# Altium footprint library PowerJack.PcbLib: 6 footprints
Each footprint in its own frame and in the unit in brackets; x right, y up, seen from the top. Pads: shape width x height; smd on the part's side, far side on the other; paste and mask are expansions set on the pad; w line width, h text height; cw(c..) or ccw(c..) is an arc to the next point about the centre after c.
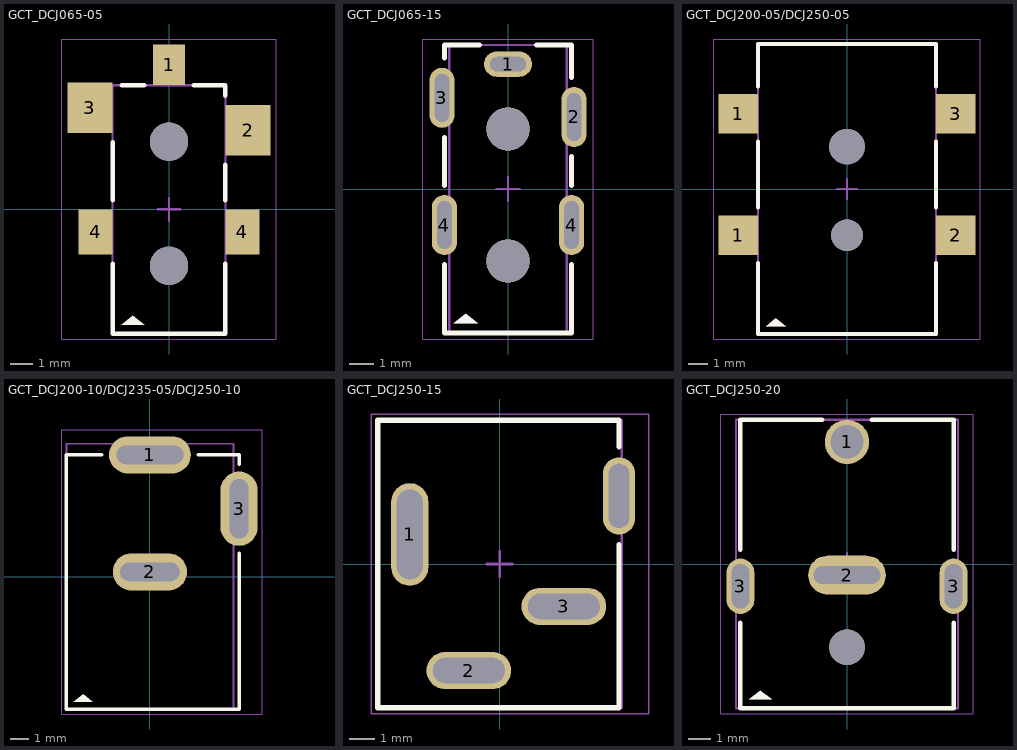
[diagram p0: the footprints below, top view; thin cyan lines are the x and y axes]

## GCT_DCJ065-05 [mm]
height 5
pads (7):
  rect 1.4x1.8 smd: 1(0,6.4)
  rect 2x2.25 smd: 2(3.5,3.5) 3(-3.5,4.5)
  rect 1.5x2 smd: 4(-3.25,-1) 4(3.25,-1)
  round 1.7 hole 1.7 unplated: ""(0,-2.5) ""(0,3)
Top Overlay:
  region: -2.1,-5.1 -1.1,-5.1 -1.6,-4.7
  lines w0.2: -2.5,-2.4 -2.5,-5.5 2.5,-5.5 2.5,-2.4 ; -2.5,0.4 -2.5,2.975 ; -2.1,5.5 -1.1,5.5 ; 1.1,5.5 2.5,5.5 2.5,5.025 ; 2.5,0.4 2.5,1.975
Top Assembly:
  region: -2.1,-5.1 -1.1,-5.1 -1.6,-4.7
  lines w0.1: -2.5,-5.5 -2.5,5.5 2.5,5.5 2.5,-5.5 -2.5,-5.5
  text ".Designator" at -2.253,-0.226 h1
Top Courtyard:
  lines w0.05: -4.75,-5.74 4.75,-5.74 4.75,7.544 -4.75,7.544 -4.75,-5.74
  lines w0.1: -0.5,0 0.5,0 ; 0,-0.5 0,0.5
3D body "DCJ065-05.stp": height 5.31, standoff -0.89, extent -4.14,-5.488 4.06,7.012

## GCT_DCJ065-15 [mm]
height 5.2
pads (7):
  oval 2x1.05 hole 0.6 slot 1.5 at 0 deg: 1(0,5.2)
  oval 1.05x2.5 hole 0.6 slot 2 at 90 deg: 2(2.75,3) 3(-2.75,3.8) 4(-2.65,-1.5) 4(2.65,-1.5)
  round 1.8 hole 1.8 unplated: ""(0,-3) ""(0,2.5)
Top Overlay:
  region: -2.25,-5.6 -1.25,-5.6 -1.75,-5.2
  lines w0.2: -2.65,-3.15 -2.65,-6 2.65,-6 2.65,-3.15 ; -2.65,0.15 -2.65,2.155 ; -2.65,5.446 -2.65,6 -1.192,6 ; 1.192,6 2.65,6 2.65,4.646 ; 2.65,0.15 2.65,1.354
Top Assembly:
  region: -2.25,-5.6 -1.25,-5.6 -1.75,-5.2
  lines w0.1: -2.45,-6 2.45,-6 2.45,6 -2.45,6 -2.45,-6
  text ".Designator" at -2.253,-0.226 h1
Top Courtyard:
  lines w0.05: -3.556,-6.248 -3.556,6.248 3.556,6.248 3.556,-6.248 -3.556,-6.248
  lines w0.1: -0.5,0 0.5,0 ; 0,-0.5 0,0.5
3D body "DCJ065-15.stp": height 5.2, standoff -2.5, extent -2.925,-6.024 2.85,5.976

## GCT_DCJ200-05/DCJ250-05 [mm]
height 11
pads (6):
  rect 2x2 smd: 1(-5.5,-2.35) 1(-5.5,3.8) 2(5.5,-2.35) 3(5.5,3.8)
  round 1.6 hole 1.6 unplated: ""(0,-2.35)
  round 1.8 hole 1.8 unplated: ""(0,2.15)
Top Overlay:
  region: -4.1,-6.95 -3.1,-6.95 -3.6,-6.55
  lines w0.2: -4.5,-3.75 -4.5,-7.35 4.5,-7.35 4.5,-3.75 ; -4.5,-0.95 -4.5,2.4 ; -4.5,5.2 -4.5,7.35 4.5,7.35 4.5,5.2 ; 4.5,-0.95 4.5,2.4
Top Assembly:
  region: -4.1,-6.95 -3.1,-6.95 -3.6,-6.55
  lines w0.1: -4.5,-7.35 -4.5,7.35 4.5,7.35 4.5,-7.35 -4.5,-7.35
  text ".Designator" at -2.253,-0.226 h1
Top Courtyard:
  lines w0.05: -6.756,-7.595 -6.756,7.595 6.756,7.595 6.756,-7.595 -6.756,-7.595
  lines w0.1: -0.5,0 0.5,0 ; 0,-0.5 0,0.5
3D body "DCJ250-05.stp": height 11, standoff -1.2, extent -6.255,-7.348 6.246,7.352

## GCT_DCJ200-10/DCJ235-05/DCJ250-10 [mm]
height 11
pads (3):
  oval 4.4x2 hole 1 slot 3.6 at 0 deg: 1(0,6.55)
  oval 4x2 hole 1 slot 3.2 at 0 deg: 2(0,0.25)
  oval 2x4 hole 1 slot 3.2 at 90 deg: 3(4.8,3.65)
Top Overlay:
  region: -4.1,-6.75 -3.1,-6.75 -3.6,-6.35
  lines w0.2: -2.6,6.55 -4.5,6.55 -4.5,-7.15 4.8,-7.15 4.8,1.25 ; 2.6,6.55 4.8,6.55 4.8,6.05
Top Assembly:
  region: -4.1,-6.75 -3.1,-6.75 -3.6,-6.35
  lines w0.1: -4.5,-7.15 -4.5,7.15 4.5,7.15 4.5,-7.15 -4.5,-7.15
  text ".Designator" at -2.253,-0.226 h1
Top Courtyard:
  lines w0.05: -4.75,-7.4 6.05,-7.4 6.05,7.9 -4.75,7.9 -4.75,-7.4
  lines w0.1: -0.5,0 0.5,0 ; 0,-0.5 0,0.5
3D body "step_temp.STEP": height 11, standoff -3.5, extent -4.5,-7.15 5.05,7.15

## GCT_DCJ250-15 [mm]
height 14.5
pads (4):
  oval 1.45x4 hole 1 slot 3.5 at 90 deg: 1(-3.5,1.15)
  oval 3.3x1.45 hole 1 slot 2.8 at 0 deg: 2(-1.2,-4.15) 3(2.5,-1.65)
  oval 1.25x3 hole 0.8 slot 2.5 at 90 deg: ""(4.65,2.65)
Top Overlay:
  lines w0.2: 4.65,0.75 4.65,-5.6 -4.75,-5.6 -4.75,5.6 4.65,5.6 4.65,4.55
Top Assembly:
  lines w0.1: -4.75,-5.6 -4.75,5.6 4.75,5.6 4.75,-5.6 -4.75,-5.6
  text ".Designator" at -2.253,-0.226 h1
Top Courtyard:
  lines w0.05: -5.004,-5.842 -5.004,5.842 5.812,5.842 5.812,-5.842 -5.004,-5.842
  lines w0.1: -0.5,0 0.5,0 ; 0,-0.5 0,0.5
3D body "DCJ250-15.stp": height 14.5, standoff -1.5, extent -4.75,-5.6 4.75,5.6

## GCT_DCJ250-20 [mm]
height 10.5
pads (5):
  round 2 hole 1.5: 1(0,5.5)
  oval 3.5x1.75 hole 0.8 slot 3 at 0 deg: 2(0,-0.5)
  oval 1.25x2.5 hole 0.8 slot 2 at 90 deg: 3(-4.8,-1) 3(4.8,-1)
  round 1.6 hole 1.6 unplated: ""(0,-3.75)
Top Overlay:
  region: -4.4,-6.1 -3.4,-6.1 -3.9,-5.7
  lines w0.2: -4.8,-2.65 -4.8,-6.5 4.8,-6.5 4.8,-2.65 ; -4.8,0.65 -4.8,6.5 -1.121,6.5 ; 1.121,6.5 4.8,6.5 4.8,0.65
Top Assembly:
  region: -4.4,-6.1 -3.4,-6.1 -3.9,-5.7
  lines w0.1: -5,-6.5 5,-6.5 5,6.5 -5,6.5 -5,-6.5
  text ".Designator" at -2.253,-0.226 h1
Top Courtyard:
  lines w0.05: -5.68,-6.756 5.68,-6.756 5.68,6.756 -5.68,6.756 -5.68,-6.756
  lines w0.1: -0.5,0 0.5,0 ; 0,-0.5 0,0.5
3D body "DCJ250-20.stp": height 10.01, standoff -2.19, extent -5.197,-6.551 5.197,6.449